# Altium integrated library BLDC_Library.IntLib: 22 symbols
Pins are listed as number, name and electrical type; pins without a type are passive.

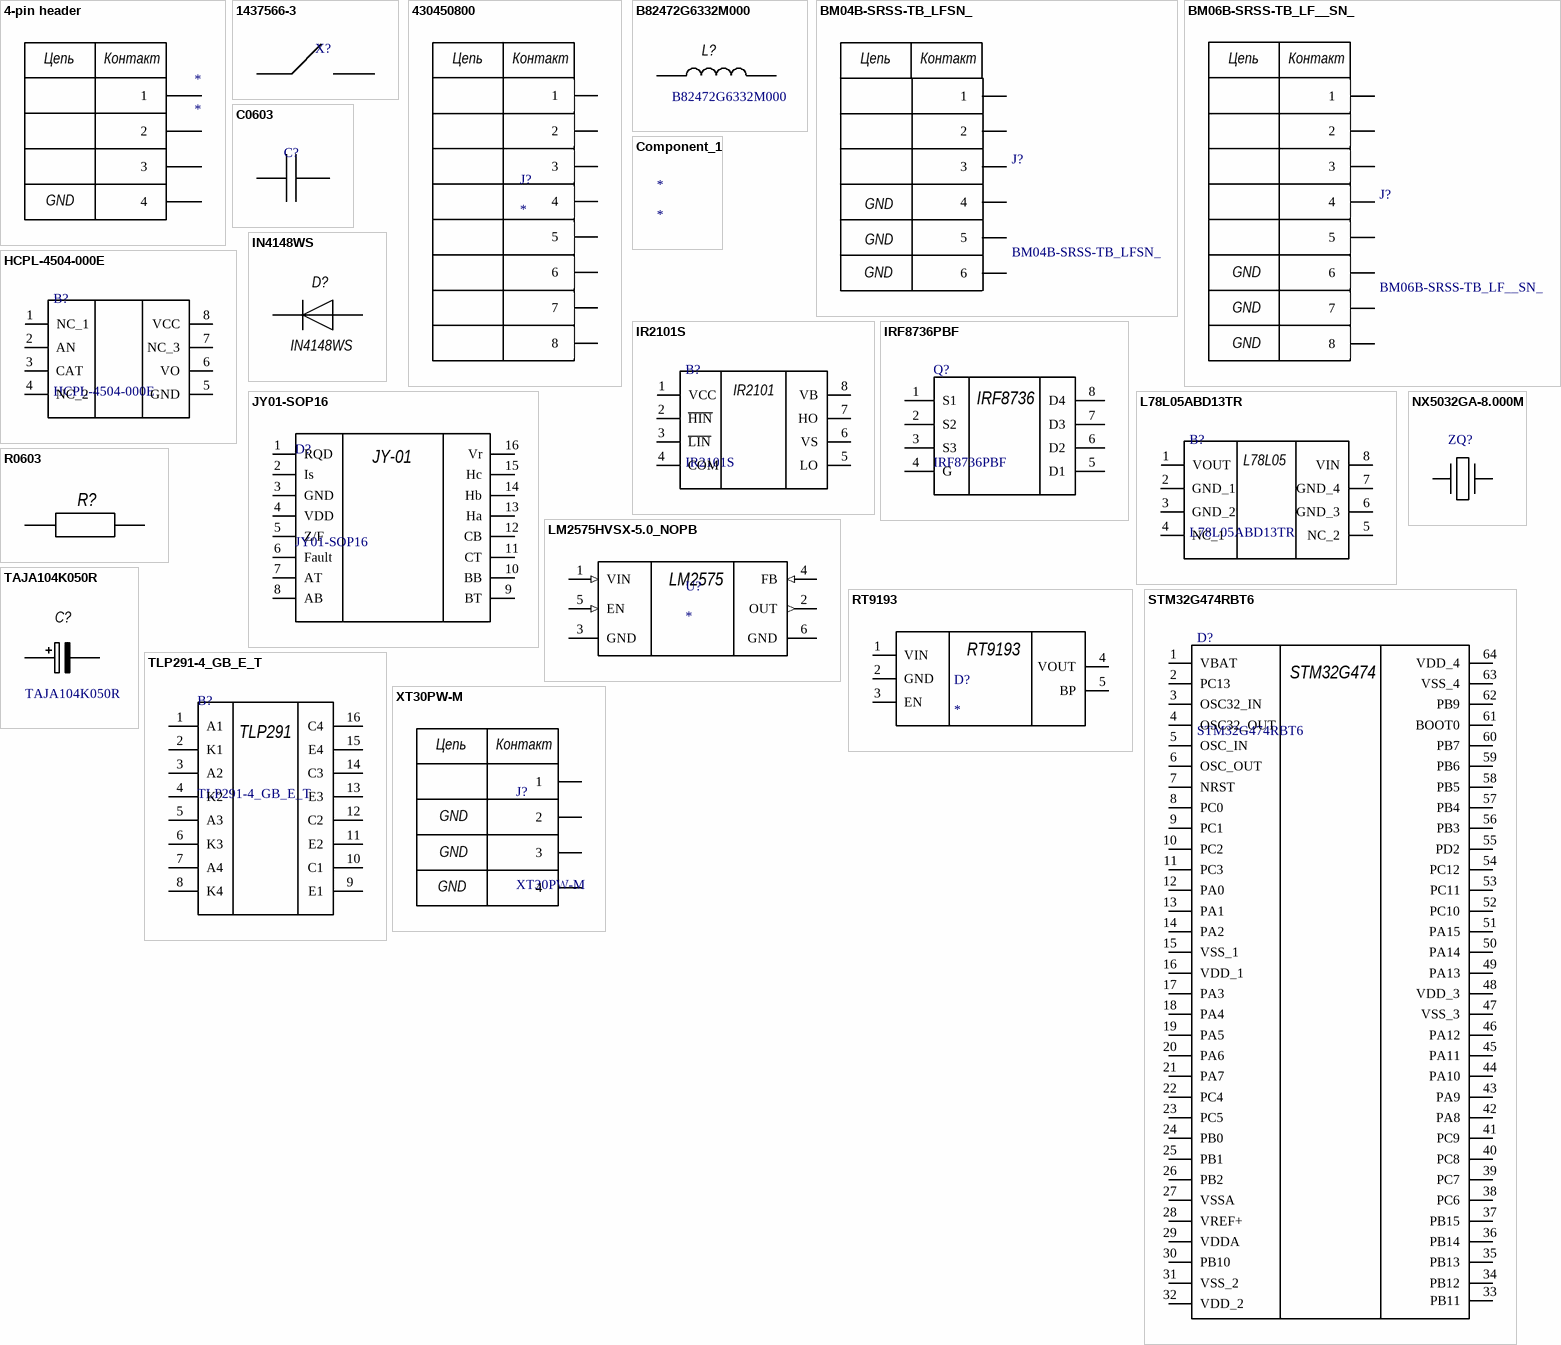
[diagram p0: symbols 4-pin header to XT30PW-M]

## 4-pin header
designator *
footprint 4-pin header
pins: 1, 2, 3, 4
text: Цепь; Контакт; GND

## 1437566-3
designator X?  (value not drawn)
1437566-3 - PUSHBUTTON SWITCH, SPST, 0.05A, 24V; Manufacturer_Name: TE Connectivity; Geometry.Height: 4.57mm; Manufacturer_Part_Number: 1437566-3; Mouser Part Number: N/A; Mouser Price/Stock: https://www.mouser.co.uk/ProductDetail/TE-Connectivity-Alcoswitch/1437566-3?qs=xoXDFGdkQ2nqx7TKB39mxQ%3D%3D; Arrow Part Number: 1437566-3; Arrow Price/Stock: https://www.arrow.com/en/products/1437566-3/te-connectivity?region=europe; Datasheet Link: https://www.te.com/commerce/DocumentDelivery/DDEController?Action=showdoc&DocId=Customer+Drawing%7F1437566-3%7FC2%7Fpdf%7FEnglish%7FENG_CD_1437566-3_C2_1437566_3_1_c.dwg.pdf%7F1437566-3
footprint 14375663
pins: 1, 2

## 430450800
designator J?
MP: 430450800; Value: *; Price: None; Availability: Unavailable; Package: None
footprint MOLEX_430450800
pins: 1, 2, 3, 4, 5, 6, 7, 8
text: Цепь; Контакт

## B82472G6332M000
designator L?
SMD / SMT Inductors (Coils), L=3.3uH, 7.3mm x 7.3mm; Manufacturer_Name: TDK; Geometry.Height: 4.5mm; Manufacturer_Part_Number: B82472G6332M000; Mouser Part Number: 871-B82472G6332M000; Mouser Price/Stock: https://www.mouser.co.uk/ProductDetail/EPCOS-TDK/B82472G6332M000?qs=x3Z3TaiycdvLmjm0xB%2FIcA%3D%3D; Arrow Part Number: *; Arrow Price/Stock: *; Datasheet Link: https://product.tdk.com/system/files/dam/doc/product/inductor/inductor/smd/data_sheet/30/db/ind_2008/b82472g6.pdf
footprint INDPM7373X450N
pins: 1, 2

## BM04B-SRSS-TB_LFSN_
designator J?
JST SH, 4 Way, 1 Row, Straight PCB Header; Manufacturer_Name: JST (JAPAN SOLDERLESS TERMINALS); Manufacturer_Part_Number: BM04B-SRSS-TB(LFSN); Geometry.Height: 4.25mm; Mouser Part Number: *; Mouser Price/Stock: *; Arrow Part Number: BM04B-SRSS-TB(LFSN); Arrow Price/Stock: https://www.arrow.com/en/products/bm04b-srss-tb-lf-sn/jst-manufacturing?region=europe; Datasheet Link: http://uk.rs-online.com/web/p/products/5151541P
footprint BM04BSRSSTBLFSN
pins: 1, 2, 3, 4, MP1 5, MP2 6
text: Цепь; Контакт; GND

## BM06B-SRSS-TB_LF__SN_
designator J?
Wire To Board / Wire To Wire Connector RoHS; Manufacturer_Name: JST (JAPAN SOLDERLESS TERMINALS); Manufacturer_Part_Number: BM06B-SRSS-TB(LF)(SN); Geometry.Height: 4.25mm; Mouser Part Number: N/A; Mouser Price/Stock: https://www.mouser.co.uk/ProductDetail/JST-Commercial/BM06B-SRSS-TBLFSN?qs=IKkN%2F947nfAcbKIXx%2F1kIg%3D%3D; Arrow Part Number: BM06B-SRSS-TB(LF)(SN); Arrow Price/Stock: https://www.arrow.com/en/products/bm06b-srss-tb-lf-sn/jst-manufacturing?region=europe; Datasheet Link: http://www.jst-mfg.com/product/pdf/eng/eSR.pdf
footprint BM06BSRSSTBLFSN
pins: 1, 2, 3, 4, 5, 6, 7, 8
text: Цепь; Контакт; GND

## C0603
designator C?
C 0603; Manufacturer_Name: KEMET; Manufacturer_Part_Number: C0603C222K4REC7411; Geometry.Height: 0.87mm; Mouser Part Number: *; Mouser Price/Stock: *; Arrow Part Number: *; Arrow Price/Stock: *; Datasheet Link: https://www.kemet.com/specsheet/C0603C222K4REC7411
footprint CAPC1608X87N
pins: 1, 2

## Component_1
designator *

## HCPL-4504-000E
designator B?
Optocoupler, Transistor Output, 1 Channel, DIP, 8 Pins, 25 mA, 3.75 kV, 25 %; Manufacturer_Name: Avago Technologies; Geometry.Height: 4.7mm; Manufacturer_Part_Number: HCPL-4504-000E; Mouser Part Number: 630-HCPL-4504-000E; Mouser Price/Stock: https://www.mouser.co.uk/ProductDetail/Broadcom-Avago/HCPL-4504-000E?qs=s%252BgfxR24RQ6uFOvNhu%252ByDw%3D%3D; Arrow Part Number: *; Arrow Price/Stock: *; Datasheet Link: https://componentsearchengine.com/Datasheets/2/HCPL-4504-000E.pdf
footprint DIP762W65P254L965H470Q8N
pins: 1 NC_1, 2 AN, 3 CAT, 4 NC_2, 5 GND, 6 VO, 7 NC_3, 8 VCC

## IN4148WS
designator D?
Small Signal Fast Switching Diode; Manufacturer_Name: Vishay; Geometry.Height: 1.15mm; Manufacturer_Part_Number: IN4148WS; Mouser Part Number: *; Mouser Price/Stock: *; Arrow Part Number: *; Arrow Price/Stock: *; Datasheet Link: https://docs.rs-online.com/69cb/0900766b80dd2a8d.pdf
footprint SOD2713X115N
pins: 1 K, 2 A

## IR2101S
designator B?
IC GATE DRVR HALF-BRIDGE 8SOIC; Manufacturer_Name: Infineon; Geometry.Height: 1.75mm; Manufacturer_Part_Number: IR2101S; Mouser Part Number: *; Mouser Price/Stock: *; Arrow Part Number: *; Arrow Price/Stock: *; Datasheet Link: https://pdf1.alldatasheet.com/datasheet-pdf/view/102221/IRF/IR2101S.html
footprint SOIC127P600X175-8N
pins: 1 VCC, 2 ~{HIN}, 3 ~{LIN}, 4 COM, 5 LO, 6 VS, 7 HO, 8 VB
text: IR2101

## IRF8736PBF
designator Q?
Infineon IRF8736PBF N-channel MOSFET, 18 A, 30 V HEXFET, 8-Pin SOIC; Geometry.Height: 1.75mm; Manufacturer_Name: Infineon; Manufacturer_Part_Number: IRF8736PBF; Mouser Part Number: 942-IRF8736PBF; Mouser Price/Stock: https://www.mouser.co.uk/ProductDetail/Infineon-IR/IRF8736PBF?qs=Z8%252BeY1k3TII91Qkl2E%252BuQw%3D%3D; Arrow Part Number: IRF8736PBF; Arrow Price/Stock: https://www.arrow.com/en/products/irf8736pbf/infineon-technologies-ag; Datasheet Link: https://www.infineon.com/dgdl/irf8736pbf.pdf?fileId=5546d462533600a40153560d9e661d7f
footprint SOIC127P600X175-8N
pins: 1 S1, 2 S2, 3 S3, 4 G, 5 D1, 6 D2, 7 D3, 8 D4
text: IRF8736

## JY01-SOP16
designator D?
BLDC FOC Controller; Manufacturer_Name: China; Geometry.Height: 1.75mm; Manufacturer_Part_Number: JY01-SOP16; Mouser Part Number: *; Mouser Price/Stock: *; Arrow Part Number: *; Arrow Price/Stock: *; Datasheet Link: http://www.lenzetech.com/public/store/pdf/jsggs/AC6969A%C2%A0Datasheet%C2%A0V1.0.pdf
footprint SOIC127P600X175-16N
pins: 1 RQD, 2 Is, 3 GND, 4 VDD, 5 Z/F, 6 Fault, 7 AT, 8 AB, 9 BT, 10 BB, 11 CT, 12 CB, 13 Ha, 14 Hb, 15 Hc, 16 Vr
text: JY-01

## L78L05ABD13TR
designator B?
Standard Regulator 5V 0.1A L78L05ABD13TR, Linear Voltage Regulator, 0.1A 5 V, 8-Pin, SOIC; Manufacturer_Name: STMicroelectronics; Geometry.Height: 1.75mm; Manufacturer_Part_Number: L78L05ABD13TR; Mouser Part Number: 511-L78L05ABD-TR; Mouser Price/Stock: https://www.mouser.co.uk/ProductDetail/STMicroelectronics/L78L05ABD13TR?qs=wFZbtnN6knRoZn2PBqhQng%3D%3D; Arrow Part Number: L78L05ABD13TR; Arrow Price/Stock: https://www.arrow.com/en/products/l78l05abd13tr/stmicroelectronics?region=europe; Datasheet Link: http://www.st.com/st-web-ui/static/active/en/resource/technical/document/datasheet/CD00000446.pdf
footprint SOIC127P600X175-8N
pins: 1 VOUT, 2 GND_1, 3 GND_2, 4 NC_1, 5 NC_2, 6 GND_3, 7 GND_4, 8 VIN
text: L78L05

## LM2575HVSX-5.0_NOPB
designator U?
Buck Switching Regulator IC Positive Fixed 5V 1 Output 1A TO-263-6, D2PAK (5 Leads + Tab), TO-263BA; MF: Microchip; MP: LM2575-5.0WU; SnapEDA_Link: https://www.snapeda.com/parts/LM2575-5.0WU/Microchip/view-part/?ref=snap; Package: TO-263-5 Microchip; Value: *; Check_prices: https://www.snapeda.com/parts/LM2575-5.0WU/Microchip/view-part/?ref=eda
footprint VREG_LM2575HVSX-5.0_NOPB
pins: 1 VIN (in), 2 OUT (out), 3 GND (power), 4 FB (in), 5 EN (in), 6 GND (power)
text: LM2575

## NX5032GA-8.000M
designator ZQ?, comment NX5032GA-12.000M-LN-CD-1  (value not drawn)
Crystals CRYSTAL 8MHZ 8PF SMD; Manufacturer_Name: NDK; Geometry.Height: 1.5mm; Manufacturer_Part_Number: NX5032GA-12.000M-LN-CD-1; Mouser Part Number: 344-NX5032GA12MLNCD1; Mouser Price/Stock: https://www.mouser.co.uk/ProductDetail/NDK/NX5032GA-12.000M-LN-CD-1?qs=55YtniHzbhA6vGHH627DAQ%3D%3D; Arrow Part Number: *; Arrow Price/Stock: *; Datasheet Link: https://componentsearchengine.com/Datasheets/1/NX5032GA-12.000M-LN-CD-1.pdf
footprint INDC5032X150N
pins: 1, 2

## R0603
designator R?, comment CPF0603B150RE  (value not drawn)
Resistor 0603 Case 150 +/-0.1% 0.063W +/-25ppm/C; Manufacturer_Name: TE Connectivity; Geometry.Height: 0.55mm; Manufacturer_Part_Number: CPF0603B150RE; Mouser Part Number: *; Mouser Price/Stock: *; Arrow Part Number: *; Arrow Price/Stock: *; Datasheet Link: http://www.farnell.com/datasheets/1786775.pdf
footprint RESC1608X55N
pins: 1, 2

## RT9193
designator D?
3.3V Regulator
footprint RT9193
pins: 1 VIN, 2 GND, 3 EN, 4 VOUT, 5 BP

## STM32G474RBT6
designator D?
LQFP is a 64 pins, 10 x 10 mm low-profile quad flat package.; Manufacturer_Name: STMicroelectronics; Geometry.Height: 1.6mm; Manufacturer_Part_Number: STM32G474RBT6; Mouser Part Number: 511-STM32G474RBT6; Mouser Price/Stock: https://www.mouser.co.uk/ProductDetail/STMicroelectronics/STM32G474RBT6?qs=uwxL4vQweFP0uAZUZXLBhQ%3D%3D; Arrow Part Number: STM32G474RBT6; Arrow Price/Stock: https://www.arrow.com/en/products/stm32g474rbt6/stmicroelectronics?region=nac; Datasheet Link: https://www.mouser.com/datasheet/2/389/stm32g474cb-1600828.pdf
footprint QFP50P1200X1200X160-64N
pins: 1 VBAT, 2 PC13, 3 OSC32_IN, 4 OSC32_OUT, 5 OSC_IN, 6 OSC_OUT, 7 NRST, 8 PC0, 9 PC1, 10 PC2, 11 PC3, 12 PA0, 13 PA1, 14 PA2, 15 VSS_1, 16 VDD_1, 17 PA3, 18 PA4, 19 PA5, 20 PA6, 21 PA7, 22 PC4, 23 PC5, 24 PB0, 25 PB1, 26 PB2, 27 VSSA, 28 VREF+, 29 VDDA, 30 PB10, 31 VSS_2, 32 VDD_2, 33 PB11, 34 PB12, 35 PB13, 36 PB14, 37 PB15, 38 PC6, 39 PC7, 40 PC8, 41 PC9, 42 PA8, 43 PA9, 44 PA10, 45 PA11, 46 PA12, 47 VSS_3, 48 VDD_3, 49 PA13, 50 PA14, 51 PA15, 52 PC10, 53 PC11, 54 PC12, 55 PD2, 56 PB3, 57 PB4, 58 PB5, 59 PB6, 60 PB7, 61 BOOT0, 62 PB9, 63 VSS_4, 64 VDD_4
text: STM32G474

## TAJA104K050R
designator C?
Capacitor tantalum TAJ 1206 100nF 50V AVX 100nF SMD Solid MnO2 Tantalum Electrolytic Capacitor, 50 V dc +/-10%, TAJ Series; Manufacturer_Name: Kyocera AVX; Geometry.Height: 1.8mm; Manufacturer_Part_Number: TAJA104K050R; Mouser Part Number: N/A; Mouser Price/Stock: http://www.mouser.com/Search/ProductDetail.aspx?qs=TDs2sH6HKGut6%252bATQXwpTg%3d%3d; Arrow Part Number: *; Arrow Price/Stock: *; Datasheet Link: http://www.farnell.com/datasheets/1680476.pdf
footprint CAPPM3216X180N
pins: 1 +, 2 -

## TLP291-4_GB_E_T
designator B?
Photocoupler, Tr, 2.3mm, DC, SO16; Manufacturer_Name: Toshiba; Manufacturer_Part_Number: TLP291-4(GB,E(T; Geometry.Height: 2.2mm; Mouser Part Number: *; Mouser Price/Stock: *; Arrow Part Number: TLP291-4(GB,E(T; Arrow Price/Stock: https://www.arrow.com/en/products/tlp291-4-gbe-t/toshiba?region=europe; Datasheet Link: http://toshiba.semicon-storage.com/info/docget.jsp?did=12858&prodName=TLP291-4
footprint SOIC127P700X220-16N
pins: 1 A1, 2 K1, 3 A2, 4 K2, 5 A3, 6 K3, 7 A4, 8 K4, 9 E1, 10 C1, 11 E2, 12 C2, 13 E3, 14 C3, 15 E4, 16 C4
text: TLP291

## XT30PW-M
designator J?
30A Low Temperature Rise Fire Retardant Plug; Manufacturer_Name: Amass; Geometry.Height: 5mm; Manufacturer_Part_Number: XT30PW-M; Mouser Part Number: *; Mouser Price/Stock: *; Arrow Part Number: *; Arrow Price/Stock: *; Datasheet Link: https://www.tme.eu/sl/Document/ce4077e36b79046da520ca73227e15de/XT30PW%20SPEC.pdf
footprint XT30PWM
pins: 1, 2, 3, 4
text: Цепь; Контакт; GND